# Altium schematic symbol library SCH_Microcontroller.SchLib: 20 symbols
Pins are listed as number, name and electrical type; pins without a type are passive.

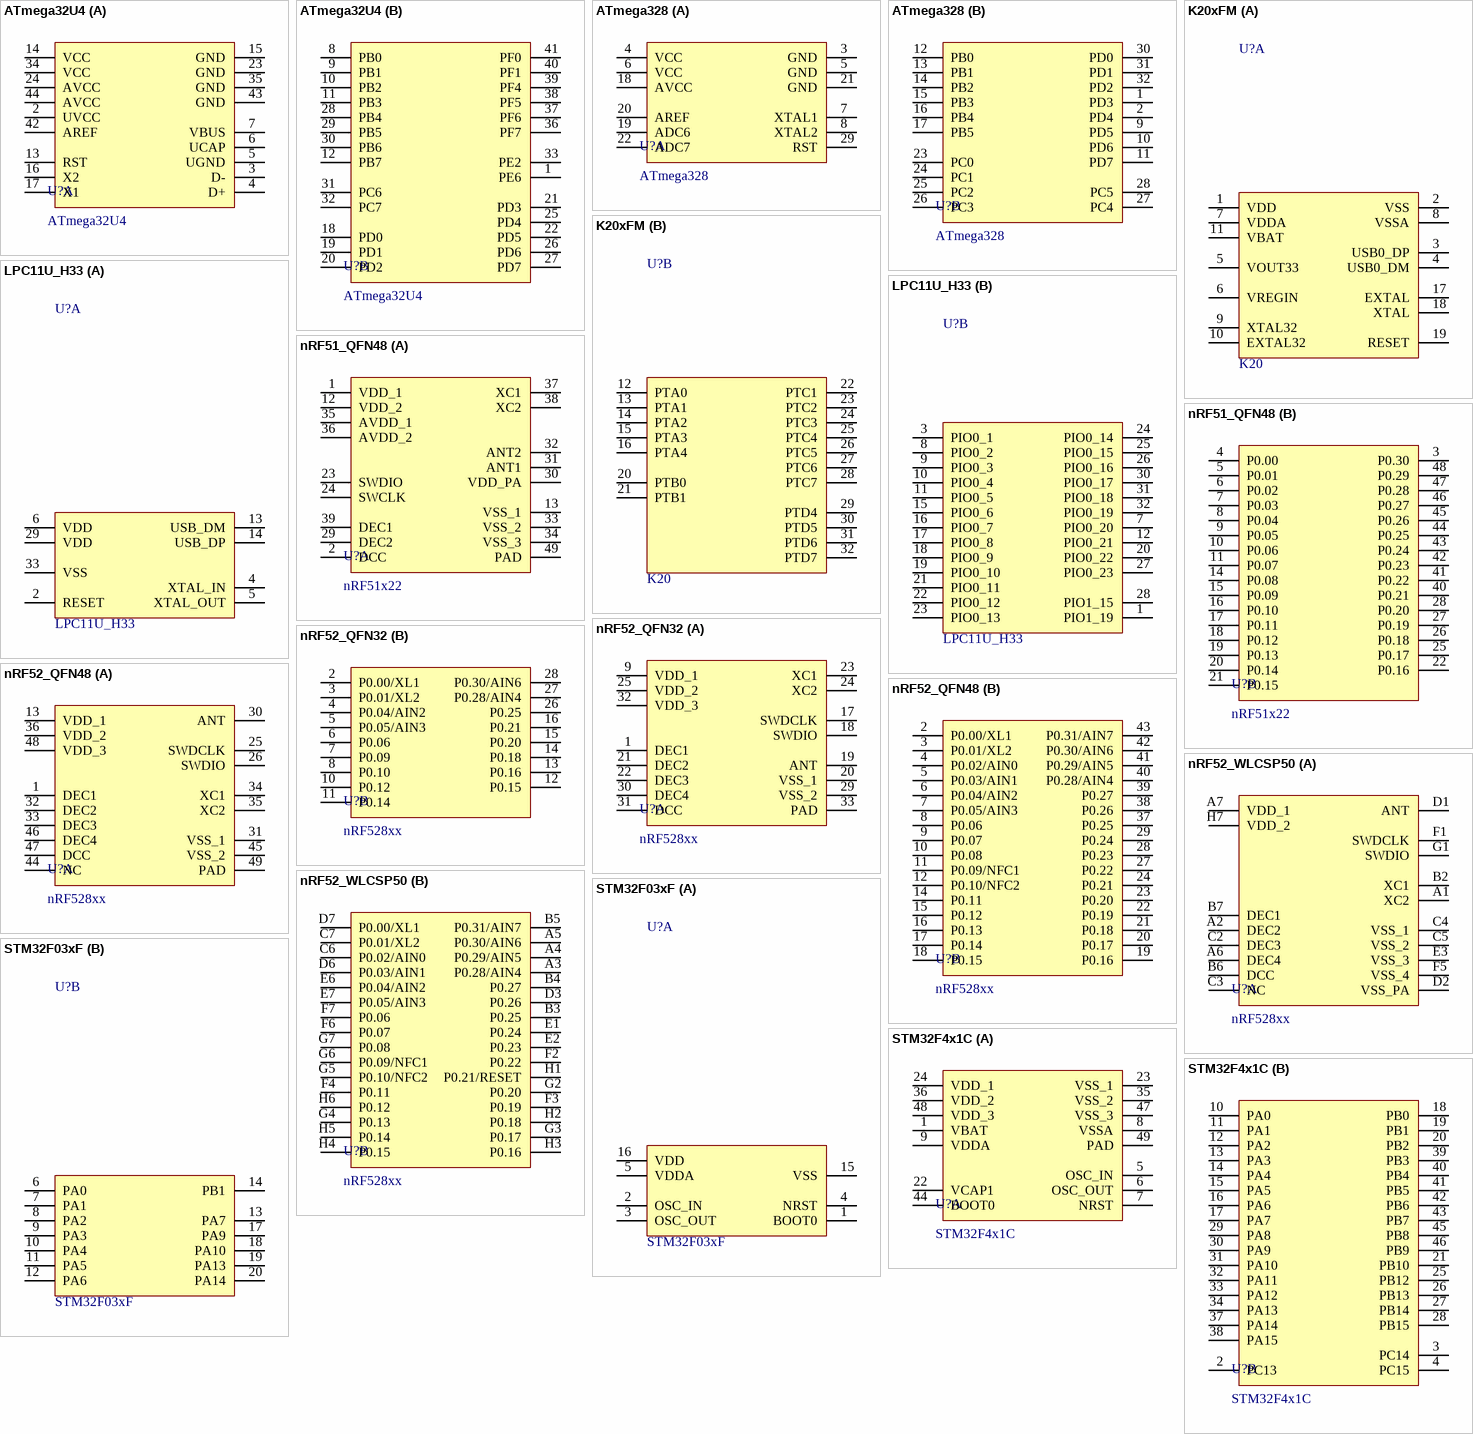
[diagram p0: symbols ATmega32U4 to STM32F4x1C]

## ATmega32U4
designator U?
MCU Atmel; Type: *; Manufacturer: *; Note: *; Specification: *; Value: *
footprint QFN_P0.5_44
part A pins: 2 UVCC, 3 D-, 4 D+, 5 UGND, 6 UCAP, 7 VBUS, 13 RST, 14 VCC, 15 GND, 16 X2, 17 X1, 23 GND, 24 AVCC, 34 VCC, 35 GND, 42 AREF, 43 GND, 44 AVCC
part B pins: 1 PE6, 8 PB0, 9 PB1, 10 PB2, 11 PB3, 12 PB7, 18 PD0, 19 PD1, 20 PD2, 21 PD3, 22 PD5, 25 PD4, 26 PD6, 27 PD7, 28 PB4, 29 PB5, 30 PB6, 31 PC6, 32 PC7, 33 PE2, 36 PF7, 37 PF6, 38 PF5, 39 PF4, 40 PF1, 41 PF0

## ATmega328
designator U?
MCU Atmel; Type: *; Manufacturer: *; Note: *; Specification: *; Value: *
footprint LQFP_P0.8_32
part A pins: 3 GND, 4 VCC, 5 GND, 6 VCC, 7 XTAL1, 8 XTAL2, 18 AVCC, 19 ADC6, 20 AREF, 21 GND, 22 ADC7, 29 RST
part B pins: 1 PD3, 2 PD4, 9 PD5, 10 PD6, 11 PD7, 12 PB0, 13 PB1, 14 PB2, 15 PB3, 16 PB4, 17 PB5, 23 PC0, 24 PC1, 25 PC2, 26 PC3, 27 PC4, 28 PC5, 30 PD0, 31 PD1, 32 PD2

## K20xFM
designator U?, comment K20
MCU Freescale; Manufacturer: *; Note: *; Specification: *; Value: *; Type: *
footprint QFN_P0.5_32
part A pins: 1 VDD, 2 VSS, 3 USB0_DP, 4 USB0_DM, 5 VOUT33, 6 VREGIN, 7 VDDA, 8 VSSA, 9 XTAL32, 10 EXTAL32, 11 VBAT, 17 EXTAL, 18 XTAL, 19 RESET
part B pins: 12 PTA0, 13 PTA1, 14 PTA2, 15 PTA3, 16 PTA4, 20 PTB0, 21 PTB1, 22 PTC1, 23 PTC2, 24 PTC3, 25 PTC4, 26 PTC5, 27 PTC6, 28 PTC7, 29 PTD4, 30 PTD5, 31 PTD6, 32 PTD7

## LPC11U_H33
designator U?
MCU NXP; Manufacturer: *; Note: *; Specification: *; Value: *; Type: *
footprint QFN_P0.5_32
part A pins: 2 RESET, 4 XTAL_IN, 5 XTAL_OUT, 6 VDD, 13 USB_DM, 14 USB_DP, 29 VDD, 33 VSS
part B pins: 1 PIO1_19, 3 PIO0_1, 7 PIO0_20, 8 PIO0_2, 9 PIO0_3, 10 PIO0_4, 11 PIO0_5, 12 PIO0_21, 15 PIO0_6, 16 PIO0_7, 17 PIO0_8, 18 PIO0_9, 19 PIO0_10, 20 PIO0_22, 21 PIO0_11, 22 PIO0_12, 23 PIO0_13, 24 PIO0_14, 25 PIO0_15, 26 PIO0_16, 27 PIO0_23, 28 PIO1_15, 30 PIO0_17, 31 PIO0_18, 32 PIO0_19

## nRF51_QFN48
designator U?, comment nRF51x22
MCU Nordic; Manufacturer: Nordic Semiconductor; Value: 32MHz; Note: CortexM0; Type: QFN48 P0.4; Specification: *
footprint QFN_P0.4_48
part A pins: 1 VDD_1, 2 DCC, 12 VDD_2, 13 VSS_1, 23 SWDIO, 24 SWCLK, 29 DEC2, 30 VDD_PA, 31 ANT1, 32 ANT2, 33 VSS_2, 34 VSS_3, 35 AVDD_1, 36 AVDD_2, 37 XC1, 38 XC2, 39 DEC1, 49 PAD
part B pins: 3 P0.30, 4 P0.00, 5 P0.01, 6 P0.02, 7 P0.03, 8 P0.04, 9 P0.05, 10 P0.06, 11 P0.07, 14 P0.08, 15 P0.09, 16 P0.10, 17 P0.11, 18 P0.12, 19 P0.13, 20 P0.14, 21 P0.15, 22 P0.16, 25 P0.17, 26 P0.18, 27 P0.19, 28 P0.20, 40 P0.21, 41 P0.22, 42 P0.23, 43 P0.24, 44 P0.25, 45 P0.26, 46 P0.27, 47 P0.28, 48 P0.29

## nRF52_QFN32
designator U?, comment nRF528xx
MCU Nordic; Manufacturer: Nordic Semiconductor; Value: 64MHz; Note: CortexM4; Type: QFN32 P0.4; Specification: *
footprint QFN_P0.5_32
part A pins: 1 DEC1, 9 VDD_1, 17 SWDCLK, 18 SWDIO, 19 ANT, 20 VSS_1, 21 DEC2, 22 DEC3, 23 XC1, 24 XC2, 25 VDD_2, 29 VSS_2, 30 DEC4, 31 DCC, 32 VDD_3, 33 PAD
part B pins: 2 P0.00/XL1, 3 P0.01/XL2, 4 P0.04/AIN2, 5 P0.05/AIN3, 6 P0.06, 7 P0.09, 8 P0.10, 10 P0.12, 11 P0.14, 12 P0.15, 13 P0.16, 14 P0.18, 15 P0.20, 16 P0.21, 26 P0.25, 27 P0.28/AIN4, 28 P0.30/AIN6

## nRF52_QFN48
designator U?, comment nRF528xx
MCU Nordic; Manufacturer: Nordic Semiconductor; Value: 64MHz; Note: CortexM4F; Type: QFN48 P0.4; Specification: *
footprint QFN_P0.4_48
part A pins: 1 DEC1, 13 VDD_1, 25 SWDCLK, 26 SWDIO, 30 ANT, 31 VSS_1, 32 DEC2, 33 DEC3, 34 XC1, 35 XC2, 36 VDD_2, 44 NC, 45 VSS_2, 46 DEC4, 47 DCC, 48 VDD_3, 49 PAD
part B pins: 2 P0.00/XL1, 3 P0.01/XL2, 4 P0.02/AIN0, 5 P0.03/AIN1, 6 P0.04/AIN2, 7 P0.05/AIN3, 8 P0.06, 9 P0.07, 10 P0.08, 11 P0.09/NFC1, 12 P0.10/NFC2, 14 P0.11, 15 P0.12, 16 P0.13, 17 P0.14, 18 P0.15, 19 P0.16, 20 P0.17, 21 P0.18, 22 P0.19, 23 P0.20, 24 P0.21, 27 P0.22, 28 P0.23, 29 P0.24, 37 P0.25, 38 P0.26, 39 P0.27, 40 P0.28/AIN4, 41 P0.29/AIN5, 42 P0.30/AIN6, 43 P0.31/AIN7

## nRF52_WLCSP50
designator U?, comment nRF528xx
MCU Nordic; Manufacturer: Nordic Semiconductor; Value: 64MHz; Type: QFN48 P0.4; Note: *; Specification: *
footprint BGA_P0.4_50
part A pins: A1 XC2, A2 DEC2, A6 DEC4, A7 VDD_1, B2 XC1, B6 DCC, B7 DEC1, C2 DEC3, C3 NC, C4 VSS_1, C5 VSS_2, D1 ANT, D2 VSS_PA, E3 VSS_3, F1 SWDCLK, F5 VSS_4, G1 SWDIO, H7 VDD_2
part B pins: A3 P0.28/AIN4, A4 P0.29/AIN5, A5 P0.30/AIN6, B3 P0.25, B4 P0.27, B5 P0.31/AIN7, C6 P0.02/AIN0, C7 P0.01/XL2, D3 P0.26, D6 P0.03/AIN1, D7 P0.00/XL1, E1 P0.24, E2 P0.23, E6 P0.04/AIN2, E7 P0.05/AIN3, F2 P0.22, F3 P0.19, F4 P0.11, F6 P0.07, F7 P0.06, G2 P0.20, G3 P0.17, G4 P0.13, G5 P0.10/NFC2, G6 P0.09/NFC1, G7 P0.08, H1 P0.21/RESET, H2 P0.18, H3 P0.16, H4 P0.15, H5 P0.14, H6 P0.12

## STM32F03xF
designator U?
MCU ST; Manufacturer: STMicroelectronics; Value: 48MHz; Note: CortexM0; Specification: 16K Flash,4K SRAM; Type: TSSOP20; Datasheet: https://www.st.com/resource/en/datasheet/stm32f030f4.pdf
footprint TSSOP_E170_P0.65_20
part A pins: 1 BOOT0, 2 OSC_IN, 3 OSC_OUT, 4 NRST, 5 VDDA, 15 VSS, 16 VDD
part B pins: 6 PA0, 7 PA1, 8 PA2, 9 PA3, 10 PA4, 11 PA5, 12 PA6, 13 PA7, 14 PB1, 17 PA9, 18 PA10, 19 PA13, 20 PA14

## STM32F4x1C
designator U?
MCU ST; Manufacturer: STMicroelectronics; Value: 100MHz; Note: CortexM0; Type: QFN48 P0.5; Specification: *
footprint QFN_P0.5_48
part A pins: 1 VBAT, 5 OSC_IN, 6 OSC_OUT, 7 NRST, 8 VSSA, 9 VDDA, 22 VCAP1, 23 VSS_1, 24 VDD_1, 35 VSS_2, 36 VDD_2, 44 BOOT0, 47 VSS_3, 48 VDD_3, 49 PAD
part B pins: 2 PC13, 3 PC14, 4 PC15, 10 PA0, 11 PA1, 12 PA2, 13 PA3, 14 PA4, 15 PA5, 16 PA6, 17 PA7, 18 PB0, 19 PB1, 20 PB2, 21 PB10, 25 PB12, 26 PB13, 27 PB14, 28 PB15, 29 PA8, 30 PA9, 31 PA10, 32 PA11, 33 PA12, 34 PA13, 37 PA14, 38 PA15, 39 PB3, 40 PB4, 41 PB5, 42 PB6, 43 PB7, 45 PB8, 46 PB9

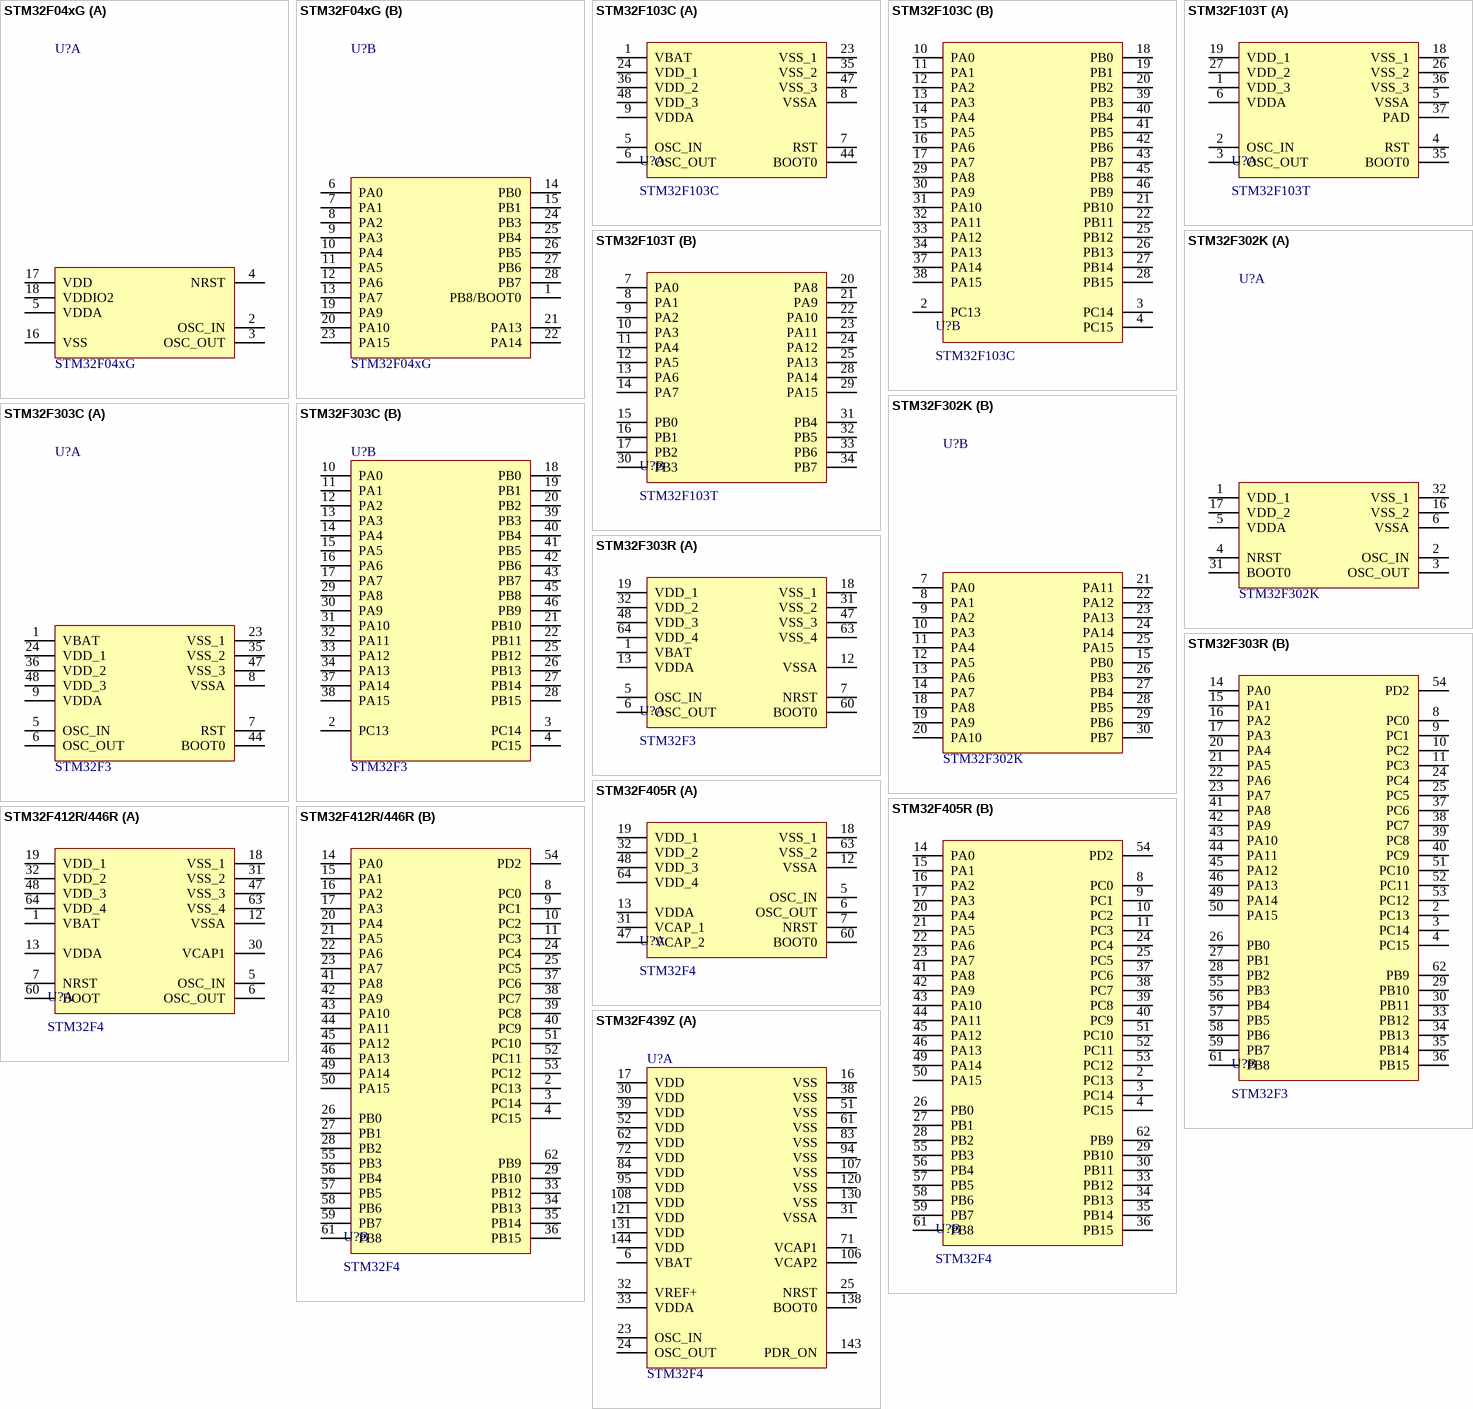
[diagram p1: symbols STM32F04xG to STM32F439Z]

## STM32F04xG
designator U?
MCU ST; Manufacturer: STMicroelectronics; Note: CortexM0; Specification: *; Value: *; Type: *
footprint QFN_P0.5_28
part A pins: 2 OSC_IN, 3 OSC_OUT, 4 NRST, 5 VDDA, 16 VSS, 17 VDD, 18 VDDIO2
part B pins: 1 PB8/BOOT0, 6 PA0, 7 PA1, 8 PA2, 9 PA3, 10 PA4, 11 PA5, 12 PA6, 13 PA7, 14 PB0, 15 PB1, 19 PA9, 20 PA10, 21 PA13, 22 PA14, 23 PA15, 24 PB3, 25 PB4, 26 PB5, 27 PB6, 28 PB7

## STM32F103C
designator U?
MCU ST; Manufacturer: STMicroelectronics; Note: CortexM3; Type: LQFP48 P0.5; Specification: *; Value: *
footprint LQFP_P0.5_48
part A pins: 1 VBAT, 5 OSC_IN, 6 OSC_OUT, 7 RST, 8 VSSA, 9 VDDA, 23 VSS_1, 24 VDD_1, 35 VSS_2, 36 VDD_2, 44 BOOT0, 47 VSS_3, 48 VDD_3
part B pins: 2 PC13, 3 PC14, 4 PC15, 10 PA0, 11 PA1, 12 PA2, 13 PA3, 14 PA4, 15 PA5, 16 PA6, 17 PA7, 18 PB0, 19 PB1, 20 PB2, 21 PB10, 22 PB11, 25 PB12, 26 PB13, 27 PB14, 28 PB15, 29 PA8, 30 PA9, 31 PA10, 32 PA11, 33 PA12, 34 PA13, 37 PA14, 38 PA15, 39 PB3, 40 PB4, 41 PB5, 42 PB6, 43 PB7, 45 PB8, 46 PB9

## STM32F103T
designator U?
MCU ST; Manufacturer: STMicroelectronics; Note: CortexM3; Type: QFN36 P0.5; Specification: *; Value: *
footprint QFN_P0.5_36
part A pins: 1 VDD_3, 2 OSC_IN, 3 OSC_OUT, 4 RST, 5 VSSA, 6 VDDA, 18 VSS_1, 19 VDD_1, 26 VSS_2, 27 VDD_2, 35 BOOT0, 36 VSS_3, 37 PAD
part B pins: 7 PA0, 8 PA1, 9 PA2, 10 PA3, 11 PA4, 12 PA5, 13 PA6, 14 PA7, 15 PB0, 16 PB1, 17 PB2, 20 PA8, 21 PA9, 22 PA10, 23 PA11, 24 PA12, 25 PA13, 28 PA14, 29 PA15, 30 PB3, 31 PB4, 32 PB5, 33 PB6, 34 PB7

## STM32F302K
designator U?
MCU ST; Manufacturer: STMicroelectronics; Note: CortexM4F; Specification: *; Value: *; Type: *
footprint QFN_P0.5_32
part A pins: 1 VDD_1, 2 OSC_IN, 3 OSC_OUT, 4 NRST, 5 VDDA, 6 VSSA, 16 VSS_2, 17 VDD_2, 31 BOOT0, 32 VSS_1
part B pins: 7 PA0, 8 PA1, 9 PA2, 10 PA3, 11 PA4, 12 PA5, 13 PA6, 14 PA7, 15 PB0, 18 PA8, 19 PA9, 20 PA10, 21 PA11, 22 PA12, 23 PA13, 24 PA14, 25 PA15, 26 PB3, 27 PB4, 28 PB5, 29 PB6, 30 PB7

## STM32F303C
designator U?, comment STM32F3
MCU ST; Manufacturer: STMicroelectronics; Note: CortexM4F; Specification: *; Value: *; Type: *
footprint LQFP_P0.5_48
part A pins: 1 VBAT, 5 OSC_IN, 6 OSC_OUT, 7 RST, 8 VSSA, 9 VDDA, 23 VSS_1, 24 VDD_1, 35 VSS_2, 36 VDD_2, 44 BOOT0, 47 VSS_3, 48 VDD_3
part B pins: 2 PC13, 3 PC14, 4 PC15, 10 PA0, 11 PA1, 12 PA2, 13 PA3, 14 PA4, 15 PA5, 16 PA6, 17 PA7, 18 PB0, 19 PB1, 20 PB2, 21 PB10, 22 PB11, 25 PB12, 26 PB13, 27 PB14, 28 PB15, 29 PA8, 30 PA9, 31 PA10, 32 PA11, 33 PA12, 34 PA13, 37 PA14, 38 PA15, 39 PB3, 40 PB4, 41 PB5, 42 PB6, 43 PB7, 45 PB8, 46 PB9

## STM32F303R
designator U?, comment STM32F3
MCU ST; Manufacturer: STMicroelectronics; Note: CortexM4F; Specification: *; Value: *; Type: *
footprint LQFP_P0.5_64
part A pins: 1 VBAT, 5 OSC_IN, 6 OSC_OUT, 7 NRST, 12 VSSA, 13 VDDA, 18 VSS_1, 19 VDD_1, 31 VSS_2, 32 VDD_2, 47 VSS_3, 48 VDD_3, 60 BOOT0, 63 VSS_4, 64 VDD_4
part B pins: 2 PC13, 3 PC14, 4 PC15, 8 PC0, 9 PC1, 10 PC2, 11 PC3, 14 PA0, 15 PA1, 16 PA2, 17 PA3, 20 PA4, 21 PA5, 22 PA6, 23 PA7, 24 PC4, 25 PC5, 26 PB0, 27 PB1, 28 PB2, 29 PB10, 30 PB11, 33 PB12, 34 PB13, 35 PB14, 36 PB15, 37 PC6, 38 PC7, 39 PC8, 40 PC9, 41 PA8, 42 PA9, 43 PA10, 44 PA11, 45 PA12, 46 PA13, 49 PA14, 50 PA15, 51 PC10, 52 PC11, 53 PC12, 54 PD2, 55 PB3, 56 PB4, 57 PB5, 58 PB6, 59 PB7, 61 PB8, 62 PB9

## STM32F405R
designator U?, comment STM32F4
MCU ST; Manufacturer: STMicroelectronics; Note: CortexM4F; Specification: *; Value: *; Type: *
footprint LQFP_P0.5_64
part A pins: 5 OSC_IN, 6 OSC_OUT, 7 NRST, 12 VSSA, 13 VDDA, 18 VSS_1, 19 VDD_1, 31 VCAP_1, 32 VDD_2, 47 VCAP_2, 48 VDD_3, 60 BOOT0, 63 VSS_2, 64 VDD_4
part B pins: 2 PC13, 3 PC14, 4 PC15, 8 PC0, 9 PC1, 10 PC2, 11 PC3, 14 PA0, 15 PA1, 16 PA2, 17 PA3, 20 PA4, 21 PA5, 22 PA6, 23 PA7, 24 PC4, 25 PC5, 26 PB0, 27 PB1, 28 PB2, 29 PB10, 30 PB11, 33 PB12, 34 PB13, 35 PB14, 36 PB15, 37 PC6, 38 PC7, 39 PC8, 40 PC9, 41 PA8, 42 PA9, 43 PA10, 44 PA11, 45 PA12, 46 PA13, 49 PA14, 50 PA15, 51 PC10, 52 PC11, 53 PC12, 54 PD2, 55 PB3, 56 PB4, 57 PB5, 58 PB6, 59 PB7, 61 PB8, 62 PB9

## STM32F412R/446R
designator U?, comment STM32F4
MCU ST; Manufacturer: STMicroelectronics; Note: CortexM4F; Specification: *; Value: *; Type: *
footprint LQFP_P0.5_64
part A pins: 1 VBAT, 5 OSC_IN, 6 OSC_OUT, 7 NRST, 12 VSSA, 13 VDDA, 18 VSS_1, 19 VDD_1, 30 VCAP1, 31 VSS_2, 32 VDD_2, 47 VSS_3, 48 VDD_3, 60 BOOT, 63 VSS_4, 64 VDD_4
part B pins: 2 PC13, 3 PC14, 4 PC15, 8 PC0, 9 PC1, 10 PC2, 11 PC3, 14 PA0, 15 PA1, 16 PA2, 17 PA3, 20 PA4, 21 PA5, 22 PA6, 23 PA7, 24 PC4, 25 PC5, 26 PB0, 27 PB1, 28 PB2, 29 PB10, 33 PB12, 34 PB13, 35 PB14, 36 PB15, 37 PC6, 38 PC7, 39 PC8, 40 PC9, 41 PA8, 42 PA9, 43 PA10, 44 PA11, 45 PA12, 46 PA13, 49 PA14, 50 PA15, 51 PC10, 52 PC11, 53 PC12, 54 PD2, 55 PB3, 56 PB4, 57 PB5, 58 PB6, 59 PB7, 61 PB8, 62 PB9

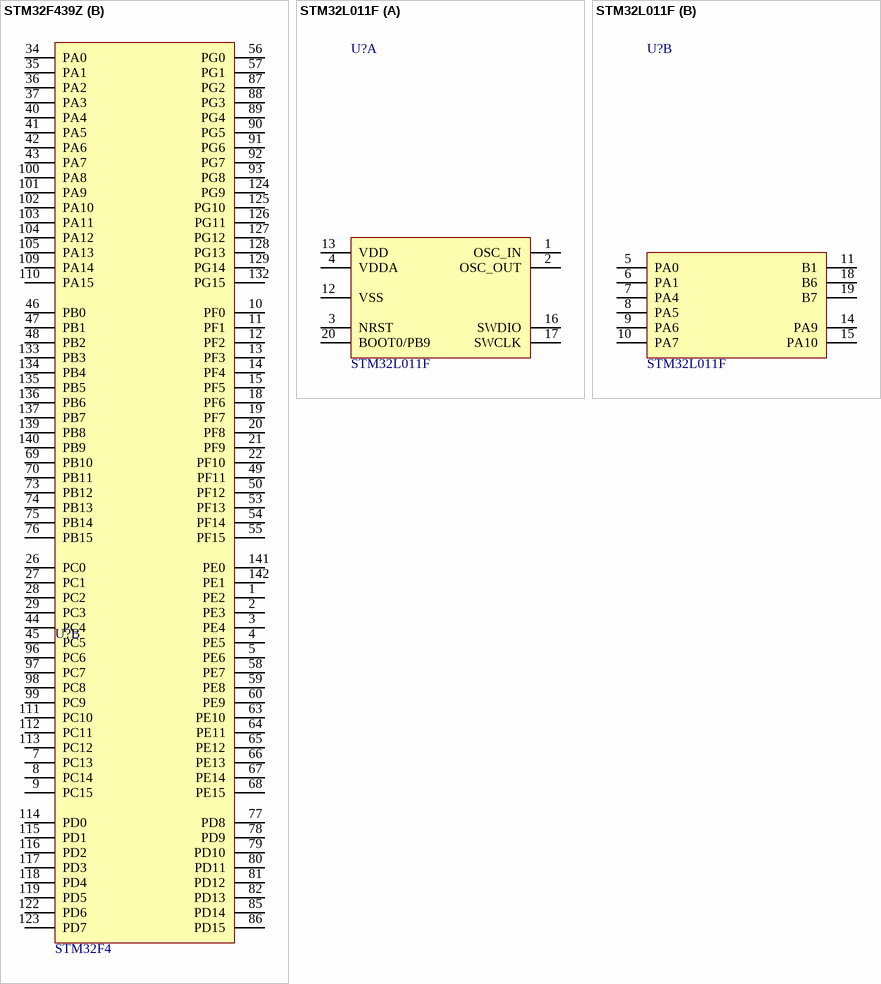
[diagram p2: symbols STM32F439Z to STM32L011F]

## STM32F439Z
designator U?, comment STM32F4
MCU ST; Manufacturer: STMicroelectronics; Note: CortexM4F; Specification: *; Value: *; Type: *
footprint LQFP_P0.5_144
part A pins: 6 VBAT, 16 VSS, 17 VDD, 23 OSC_IN, 24 OSC_OUT, 25 NRST, 30 VDD, 31 VSSA, 32 VREF+, 33 VDDA, 38 VSS, 39 VDD, 51 VSS, 52 VDD, 61 VSS, 62 VDD, 71 VCAP1, 72 VDD, 83 VSS, 84 VDD, 94 VSS, 95 VDD, 106 VCAP2, 107 VSS, 108 VDD, 120 VSS, 121 VDD, 130 VSS, 131 VDD, 138 BOOT0, 143 PDR_ON, 144 VDD
part B pins: 1 PE2, 2 PE3, 3 PE4, 4 PE5, 5 PE6, 7 PC13, 8 PC14, 9 PC15, 10 PF0, 11 PF1, 12 PF2, 13 PF3, 14 PF4, 15 PF5, 18 PF6, 19 PF7, 20 PF8, 21 PF9, 22 PF10, 26 PC0, 27 PC1, 28 PC2, 29 PC3, 34 PA0, 35 PA1, 36 PA2, 37 PA3, 40 PA4, 41 PA5, 42 PA6, 43 PA7, 44 PC4, 45 PC5, 46 PB0, 47 PB1, 48 PB2, 49 PF11, 50 PF12, 53 PF13, 54 PF14, 55 PF15, 56 PG0, 57 PG1, 58 PE7, 59 PE8, 60 PE9, 63 PE10, 64 PE11, 65 PE12, 66 PE13, 67 PE14, 68 PE15, 69 PB10, 70 PB11, 73 PB12, 74 PB13, 75 PB14, 76 PB15, 77 PD8, 78 PD9, 79 PD10, 80 PD11, 81 PD12, 82 PD13, 85 PD14, 86 PD15, 87 PG2, 88 PG3, 89 PG4, 90 PG5, 91 PG6, 92 PG7, 93 PG8, 96 PC6, 97 PC7, 98 PC8, 99 PC9, 100 PA8, 101 PA9, 102 PA10, 103 PA11, 104 PA12, 105 PA13, 109 PA14, 110 PA15, 111 PC10, 112 PC11, 113 PC12, 114 PD0, 115 PD1, 116 PD2, 117 PD3, 118 PD4, 119 PD5, 122 PD6, 123 PD7, 124 PG9, 125 PG10, 126 PG11, 127 PG12, 128 PG13, 129 PG14, 132 PG15, 133 PB3, 134 PB4, 135 PB5, 136 PB6, 137 PB7, 139 PB8, 140 PB9, 141 PE0, 142 PE1

## STM32L011F
designator U?
MCU ST; Manufacturer: STMicroelectronics; Value: 32MHz; Note: CortexM0; Specification: 16K Flash,2K SRAM; Type: TSSOP20; Datasheet: https://www.st.com/resource/en/datasheet/stm32f030f4.pdf
footprint QFN_P0.5_20 (QFN, 20-Leads, Body 3.00x3.00mm, Pitch 0.50mm, IPC High Density)
part A pins: 1 OSC_IN, 2 OSC_OUT, 3 NRST, 4 VDDA, 12 VSS, 13 VDD, 16 SWDIO, 17 SWCLK, 20 BOOT0/PB9
part B pins: 5 PA0, 6 PA1, 7 PA4, 8 PA5, 9 PA6, 10 PA7, 11 B1, 14 PA9, 15 PA10, 18 B6, 19 B7